# Altium schematic symbol library JLCPCB Ceramic Capacitor Schematic Lib.SchLib: 83 symbols
Pins are listed as number, name and electrical type; pins without a type are passive.

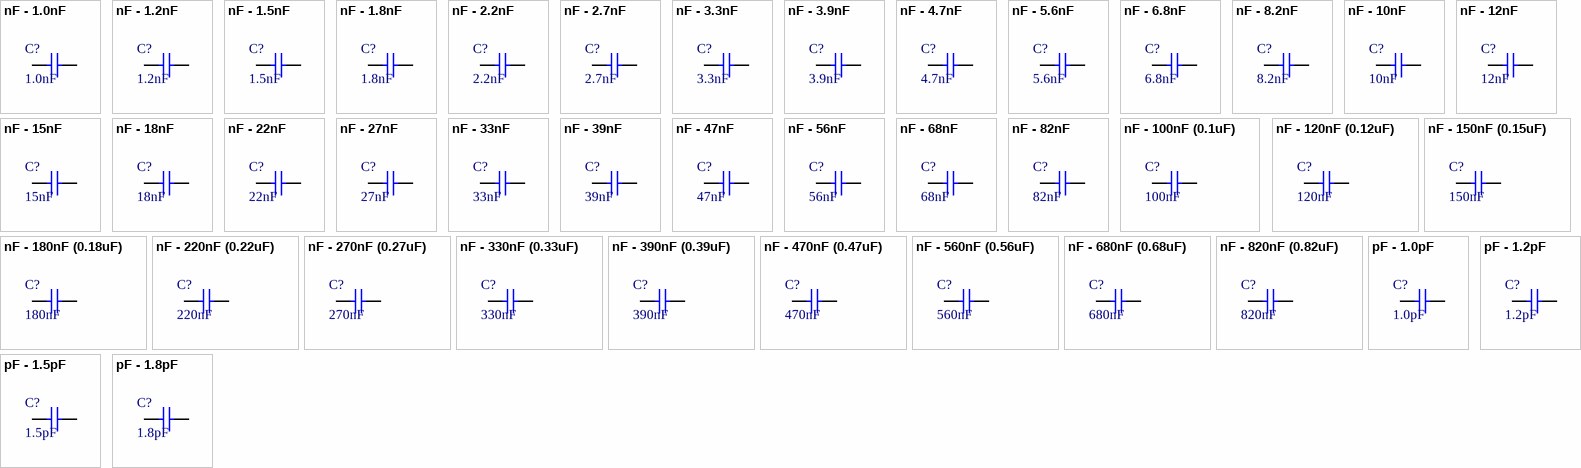
[diagram p0: symbols nF - 1.0nF to pF - 1.8pF]

## nF - 1.0nF
designator C?, comment 1.0nF
CAP Ceramic, 1.0nF, 50V, 0805; MPN: CL21B102KBCNNNC; Manufacturer: Samsung Electro-Mechanics; Capacitance: 1.0nF; Footprint: 0805; JLCPCB Part #: C46653; Voltage Rating: 50V; JLCPCB Basic Part: TRUE
footprint 0805 (Chip Resistor, 2-Leads, Body 2.00x1.25mm, IPC High Density)
pins: 1, 2

## nF - 1.2nF
designator C?, comment 1.2nF
CAP Ceramic, 1.2nF, 50V, 0805; MPN: CC0805JRNPO9BN122; Manufacturer: YAGEO; Capacitance: 1.2nF; Footprint: 0805; JLCPCB Part #: C113824; Voltage Rating: 50V; JLCPCB Basic Part: FALSE
footprint 0805 (Chip Resistor, 2-Leads, Body 2.00x1.25mm, IPC High Density)
pins: 1, 2

## nF - 1.5nF
designator C?, comment 1.5nF
CAP Ceramic, 1.5nF, 50V, 0805; MPN: 0805B152K500NT; Manufacturer: FH (Guangdong Fenghua Advanced Tech); Capacitance: 1.5nF; Footprint: 0805; JLCPCB Part #: C1717; Voltage Rating: 50V; JLCPCB Basic Part: TRUE
footprint 0805 (Chip Resistor, 2-Leads, Body 2.00x1.25mm, IPC High Density)
pins: 1, 2

## nF - 1.8nF
designator C?, comment 1.8nF
CAP Ceramic, 1.8nF, 50V, 0805; MPN: CC0805JRX7R9BB182; Manufacturer: YAGEO; Capacitance: 1.8nF; Footprint: 0805; JLCPCB Part #: C520021; Voltage Rating: 50V; JLCPCB Basic Part: FALSE
footprint 0805 (Chip Resistor, 2-Leads, Body 2.00x1.25mm, IPC High Density)
pins: 1, 2

## nF - 2.2nF
designator C?, comment 2.2nF
CAP Ceramic, 2.2nF, 50V, 0805; MPN: CL21C222JBFNNNE; Manufacturer: Samsung Electro-Mechanics; Capacitance: 2.2nF; Footprint: 0805; JLCPCB Part #: C28260; Voltage Rating: 50V; JLCPCB Basic Part: TRUE
footprint 0805 (Chip Resistor, 2-Leads, Body 2.00x1.25mm, IPC High Density)
pins: 1, 2

## nF - 2.7nF
designator C?, comment 2.7nF
CAP Ceramic, 2.7nF, 50V, 0805; MPN: CC0805JRX7R9BB272; Manufacturer: YAGEO; Capacitance: 2.7nF; Footprint: 0805; JLCPCB Part #: C520024; Voltage Rating: 50V; JLCPCB Basic Part: FALSE
footprint 0805 (Chip Resistor, 2-Leads, Body 2.00x1.25mm, IPC High Density)
pins: 1, 2

## nF - 3.3nF
designator C?, comment 3.3nF
CAP Ceramic, 3.3nF, 50V, 0805; MPN: 0805CG332J500NT; Manufacturer: FH (Guangdong Fenghua Advanced Tech); Capacitance: 3.3nF; Footprint: 0805; JLCPCB Part #: C486355; Voltage Rating: 50V; JLCPCB Basic Part: FALSE
footprint 0805 (Chip Resistor, 2-Leads, Body 2.00x1.25mm, IPC High Density)
pins: 1, 2

## nF - 3.9nF
designator C?, comment 3.9nF
CAP Ceramic, 3.9nF, 50V, 0805; MPN: CC0805JRX7R9BB392; Manufacturer: YAGEO; Capacitance: 3.9nF; Footprint: 0805; JLCPCB Part #: C520026; Voltage Rating: 50V; JLCPCB Basic Part: FALSE
footprint 0805 (Chip Resistor, 2-Leads, Body 2.00x1.25mm, IPC High Density)
pins: 1, 2

## nF - 4.7nF
designator C?, comment 4.7nF
CAP Ceramic, 4.7nF, 50V, 0805; MPN: 0805B472K500NT; Manufacturer: FH (Guangdong Fenghua Advanced Tech); Capacitance: 4.7nF; Footprint: 0805; JLCPCB Part #: C1744; Voltage Rating: 50V; JLCPCB Basic Part: TRUE
footprint 0805 (Chip Resistor, 2-Leads, Body 2.00x1.25mm, IPC High Density)
pins: 1, 2

## nF - 5.6nF
designator C?, comment 5.6nF
CAP Ceramic, 5.6nF, 50V, 0805; MPN: 0805B562K500NT; Manufacturer: FH (Guangdong Fenghua Advanced Tech); Capacitance: 5.6nF; Footprint: 0805; JLCPCB Part #: C1752; Voltage Rating: 50V; JLCPCB Basic Part: FALSE
footprint 0805 (Chip Resistor, 2-Leads, Body 2.00x1.25mm, IPC High Density)
pins: 1, 2

## nF - 6.8nF
designator C?, comment 6.8nF
CAP Ceramic, 6.8nF, 50V, 0805; MPN: 0805B682K500NT; Manufacturer: FH (Guangdong Fenghua Advanced Tech); Capacitance: 6.8nF; Footprint: 0805; JLCPCB Part #: C1755; Voltage Rating: 50V; JLCPCB Basic Part: TRUE
footprint 0805 (Chip Resistor, 2-Leads, Body 2.00x1.25mm, IPC High Density)
pins: 1, 2

## nF - 8.2nF
designator C?, comment 8.2nF
CAP Ceramic, 8.2nF, 50V, 0805; MPN: CC0805JRX7R9BB822; Manufacturer: YAGEO; Capacitance: 8.2nF; Footprint: 0805; JLCPCB Part #: C309490; Voltage Rating: 50V; JLCPCB Basic Part: FALSE
footprint 0805 (Chip Resistor, 2-Leads, Body 2.00x1.25mm, IPC High Density)
pins: 1, 2

## nF - 10nF
designator C?, comment 10nF
CAP Ceramic, 10nF, 50V, 0805; MPN: 0805B103J500NT; Manufacturer: FH (Guangdong Fenghua Advanced Tech); Capacitance: 10nF; Footprint: 0805; JLCPCB Part #: C24666; Voltage Rating: 50V; JLCPCB Basic Part: FALSE
footprint 0805 (Chip Resistor, 2-Leads, Body 2.00x1.25mm, IPC High Density)
pins: 1, 2

## nF - 12nF
designator C?, comment 12nF
CAP Ceramic, 12nF, 50V, 0805; MPN: 0805B123K500NT; Manufacturer: FH (Guangdong Fenghua Advanced Tech); Capacitance: 12nF; Footprint: 0805; JLCPCB Part #: C1715; Voltage Rating: 50V; JLCPCB Basic Part: FALSE
footprint 0805 (Chip Resistor, 2-Leads, Body 2.00x1.25mm, IPC High Density)
pins: 1, 2

## nF - 15nF
designator C?, comment 15nF
CAP Ceramic, 15nF, 50V, 0805; MPN: CC0805JRX7R9BB153; Manufacturer: YAGEO; Capacitance: 15nF; Footprint: 0805; JLCPCB Part #: C520016; Voltage Rating: 50V; JLCPCB Basic Part: FALSE
footprint 0805 (Chip Resistor, 2-Leads, Body 2.00x1.25mm, IPC High Density)
pins: 1, 2

## nF - 18nF
designator C?, comment 18nF
CAP Ceramic, 18nF, 50V, 0805; MPN: CC0805JRX7R9BB183; Manufacturer: YAGEO; Capacitance: 18nF; Footprint: 0805; JLCPCB Part #: C520032; Voltage Rating: 50V; JLCPCB Basic Part: FALSE
footprint 0805 (Chip Resistor, 2-Leads, Body 2.00x1.25mm, IPC High Density)
pins: 1, 2

## nF - 22nF
designator C?, comment 22nF
CAP Ceramic, 22nF, 50V, 0805; MPN: CL21B223KBANNNC; Manufacturer: Samsung Electro-Mechanics; Capacitance: 22nF; Footprint: 0805; JLCPCB Part #: C1729; Voltage Rating: 50V; JLCPCB Basic Part: TRUE
footprint 0805 (Chip Resistor, 2-Leads, Body 2.00x1.25mm, IPC High Density)
pins: 1, 2

## nF - 27nF
designator C?, comment 27nF
CAP Ceramic, 27nF, 50V, 0805; MPN: CC0805JRX7R9BB273; Manufacturer: YAGEO; Capacitance: 27nF; Footprint: 0805; JLCPCB Part #: C520042; Voltage Rating: 50V; JLCPCB Basic Part: FALSE
footprint 0805 (Chip Resistor, 2-Leads, Body 2.00x1.25mm, IPC High Density)
pins: 1, 2

## nF - 33nF
designator C?, comment 33nF
CAP Ceramic, 33nF, 50V, 0805; MPN: 0805B333K500NT; Manufacturer: FH (Guangdong Fenghua Advanced Tech); Capacitance: 33nF; Footprint: 0805; JLCPCB Part #: C1739; Voltage Rating: 50V; JLCPCB Basic Part: TRUE
footprint 0805 (Chip Resistor, 2-Leads, Body 2.00x1.25mm, IPC High Density)
pins: 1, 2

## nF - 39nF
designator C?, comment 39nF
CAP Ceramic, 39nF, 50V, 0805; MPN: CC0805KRX7R9BB393; Manufacturer: YAGEO; Capacitance: 39nF; Footprint: 0805; JLCPCB Part #: C309493; Voltage Rating: 50V; JLCPCB Basic Part: FALSE
footprint 0805 (Chip Resistor, 2-Leads, Body 2.00x1.25mm, IPC High Density)
pins: 1, 2

## nF - 47nF
designator C?, comment 47nF
CAP Ceramic, 47nF, 50V, 0805; MPN: CL21B473KBCNNNC; Manufacturer: Samsung Electro-Mechanics; Capacitance: 47nF; Footprint: 0805; JLCPCB Part #: C53134; Voltage Rating: 50V; JLCPCB Basic Part: TRUE
footprint 0805 (Chip Resistor, 2-Leads, Body 2.00x1.25mm, IPC High Density)
pins: 1, 2

## nF - 56nF
designator C?, comment 56nF
CAP Ceramic, 56nF, 50V, 0805; MPN: CC0805JRX7R9BB563; Manufacturer: YAGEO; Capacitance: 56nF; Footprint: 0805; JLCPCB Part #: C520045; Voltage Rating: 50V; JLCPCB Basic Part: FALSE
footprint 0805 (Chip Resistor, 2-Leads, Body 2.00x1.25mm, IPC High Density)
pins: 1, 2

## nF - 68nF
designator C?, comment 68nF
CAP Ceramic, 68nF, 50V, 0805; MPN: 0805B683K500NT; Manufacturer: FH (Guangdong Fenghua Advanced Tech); Capacitance: 68nF; Footprint: 0805; JLCPCB Part #: C1756; Voltage Rating: 50V; JLCPCB Basic Part: FALSE
footprint 0805 (Chip Resistor, 2-Leads, Body 2.00x1.25mm, IPC High Density)
pins: 1, 2

## nF - 82nF
designator C?, comment 82nF
CAP Ceramic, 82nF, 50V, 0805; MPN: CC0805JRX7R9BB823; Manufacturer: YAGEO; Capacitance: 82nF; Footprint: 0805; JLCPCB Part #: C520047; Voltage Rating: 50V; JLCPCB Basic Part: FALSE
footprint 0805 (Chip Resistor, 2-Leads, Body 2.00x1.25mm, IPC High Density)
pins: 1, 2

## nF - 100nF (0.1uF)
designator C?, comment 100nF
CAP Ceramic, 100nF, 50V, 0805; MPN: CC0805KRX7R9BB104; Manufacturer: YAGEO; Capacitance: 100nF; Footprint: 0805; JLCPCB Part #: C49678; Voltage Rating: 50V; JLCPCB Basic Part: TRUE
footprint 0805 (Chip Resistor, 2-Leads, Body 2.00x1.25mm, IPC High Density)
pins: 1, 2

## nF - 120nF (0.12uF)
designator C?, comment 120nF
CAP Ceramic, 120nF, 50V, 0805; MPN: TCC0805X7R124K500DT; Manufacturer: CCTC; Capacitance: 120nF; Footprint: 0805; JLCPCB Part #: C376931; Voltage Rating: 50V; JLCPCB Basic Part: FALSE
footprint 0805 (Chip Resistor, 2-Leads, Body 2.00x1.25mm, IPC High Density)
pins: 1, 2

## nF - 150nF (0.15uF)
designator C?, comment 150nF
CAP Ceramic, 150nF, 50V, 0805; MPN: 0805B154K500NT; Manufacturer: FH (Guangdong Fenghua Advanced Tech); Capacitance: 150nF; Footprint: 0805; JLCPCB Part #: C1719; Voltage Rating: 50V; JLCPCB Basic Part: FALSE
footprint 0805 (Chip Resistor, 2-Leads, Body 2.00x1.25mm, IPC High Density)
pins: 1, 2

## nF - 180nF (0.18uF)
designator C?, comment 180nF
CAP Ceramic, 180nF, 50V, 0805; MPN: TCC0805X7R184K500DT; Manufacturer: CCTC; Capacitance: 180nF; Footprint: 0805; JLCPCB Part #: C376938; Voltage Rating: 50V; JLCPCB Basic Part: FALSE
footprint 0805 (Chip Resistor, 2-Leads, Body 2.00x1.25mm, IPC High Density)
pins: 1, 2

## nF - 220nF (0.22uF)
designator C?, comment 220nF
CAP Ceramic, 220nF, 50V, 0805; MPN: CL21B224KBFNNNE; Manufacturer: Samsung Electro-Mechanics; Capacitance: 220nF; Footprint: 0805; JLCPCB Part #: C5378; Voltage Rating: 50V; JLCPCB Basic Part: TRUE
footprint 0805 (Chip Resistor, 2-Leads, Body 2.00x1.25mm, IPC High Density)
pins: 1, 2

## nF - 270nF (0.27uF)
designator C?, comment 270nF
CAP Ceramic, 270nF, 50V, 0805; MPN: TCC0805X7R274K500DT; Manufacturer: CCTC; Capacitance: 270nF; Footprint: 0805; JLCPCB Part #: C376968; Voltage Rating: 50V; JLCPCB Basic Part: FALSE
footprint 0805 (Chip Resistor, 2-Leads, Body 2.00x1.25mm, IPC High Density)
pins: 1, 2

## nF - 330nF (0.33uF)
designator C?, comment 330nF
CAP Ceramic, 330nF, 50V, 0805; MPN: 0805B334K500NT; Manufacturer: FH (Guangdong Fenghua Advanced Tech); Capacitance: 330nF; Footprint: 0805; JLCPCB Part #: C1740; Voltage Rating: 50V; JLCPCB Basic Part: TRUE
footprint 0805 (Chip Resistor, 2-Leads, Body 2.00x1.25mm, IPC High Density)
pins: 1, 2

## nF - 390nF (0.39uF)
designator C?, comment 390nF
CAP Ceramic, 390nF, 50V, 0805; MPN: 0805B394K500CT; Manufacturer: Walsin Tech Corp; Capacitance: 390nF; Footprint: 0805; JLCPCB Part #: C384757; Voltage Rating: 50V; JLCPCB Basic Part: FALSE
footprint 0805 (Chip Resistor, 2-Leads, Body 2.00x1.25mm, IPC High Density)
pins: 1, 2

## nF - 470nF (0.47uF)
designator C?, comment 470nF
CAP Ceramic, 470nF, 50V, 0805; MPN: CL21B474KBFNNNE; Manufacturer: Samsung Electro-Mechanics; Capacitance: 470nF; Footprint: 0805; JLCPCB Part #: C13967; Voltage Rating: 50V; JLCPCB Basic Part: TRUE
footprint 0805 (Chip Resistor, 2-Leads, Body 2.00x1.25mm, IPC High Density)
pins: 1, 2

## nF - 560nF (0.56uF)
designator C?, comment 560nF
CAP Ceramic, 560nF, 50V, 0805; MPN: TCC0805X7R564K500DT; Manufacturer: CCTC; Capacitance: 560nF; Footprint: 0805; JLCPCB Part #: C377000; Voltage Rating: 50V; JLCPCB Basic Part: FALSE
footprint 0805 (Chip Resistor, 2-Leads, Body 2.00x1.25mm, IPC High Density)
pins: 1, 2

## nF - 680nF (0.68uF)
designator C?, comment 680nF
CAP Ceramic, 680nF, 50V, 0805; MPN: CC0805KKX7R9BB684; Manufacturer: YAGEO; Capacitance: 680nF; Footprint: 0805; JLCPCB Part #: C107133; Voltage Rating: 50V; JLCPCB Basic Part: FALSE
footprint 0805 (Chip Resistor, 2-Leads, Body 2.00x1.25mm, IPC High Density)
pins: 1, 2

## nF - 820nF (0.82uF)
designator C?, comment 820nF
CAP Ceramic, 820nF, 50V, 0805; MPN: 0805F824M500NT; Manufacturer: FH (Guangdong Fenghua Advanced Tech); Capacitance: 820nF; Footprint: 0805; JLCPCB Part #: C67958; Voltage Rating: 50V; JLCPCB Basic Part: FALSE
footprint 0805 (Chip Resistor, 2-Leads, Body 2.00x1.25mm, IPC High Density)
pins: 1, 2

## pF - 1.0pF
designator C?, comment 1.0pF
CAP Ceramic, 1.0pF, 50V, 0805; MPN: CC0805CRNPO9BN1R0; Manufacturer: YAGEO; Capacitance: 1.0pF; Footprint: 0805; JLCPCB Part #: C513668; Voltage Rating: 50V; JLCPCB Basic Part: FALSE
footprint 0805 (Chip Resistor, 2-Leads, Body 2.00x1.25mm, IPC High Density)
pins: 1, 2

## pF - 1.2pF
designator C?, comment 1.2pF
CAP Ceramic, 1.2pF, 50V, 0805; MPN: CC0805CRNPO9BN1R2; Manufacturer: YAGEO; Capacitance: 1.2pF; Footprint: 0805; JLCPCB Part #: C327236; Voltage Rating: 50V; JLCPCB Basic Part: FALSE
footprint 0805 (Chip Resistor, 2-Leads, Body 2.00x1.25mm, IPC High Density)
pins: 1, 2

## pF - 1.5pF
designator C?, comment 1.5pF
CAP Ceramic, 1.5pF, 50V, 0805; MPN: CC0805CRNPO9BN1R5; Manufacturer: YAGEO; Capacitance: 1.5pF; Footprint: 0805; JLCPCB Part #: C519931; Voltage Rating: 50V; JLCPCB Basic Part: FALSE
footprint 0805 (Chip Resistor, 2-Leads, Body 2.00x1.25mm, IPC High Density)
pins: 1, 2

## pF - 1.8pF
designator C?, comment 1.8pF
CAP Ceramic, 1.8pF, 50V, 0805; MPN: CC0805CRNPO9BN1R8; Manufacturer: YAGEO; Capacitance: 1.8pF; Footprint: 0805; JLCPCB Part #: C327235; Voltage Rating: 50V; JLCPCB Basic Part: FALSE
footprint 0805 (Chip Resistor, 2-Leads, Body 2.00x1.25mm, IPC High Density)
pins: 1, 2

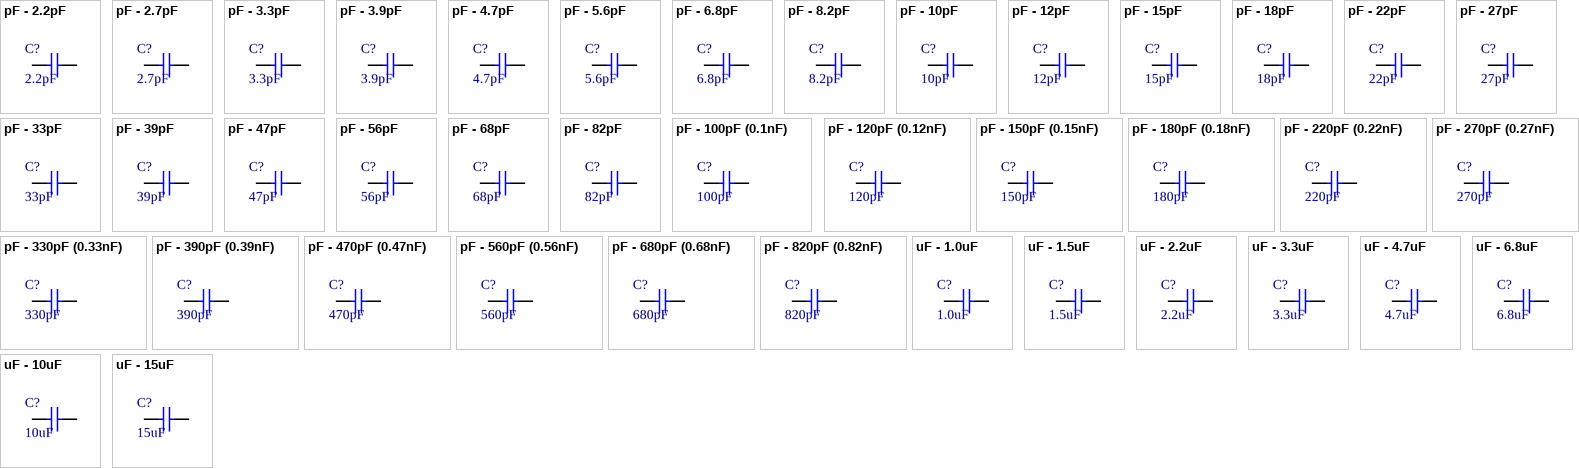
[diagram p1: symbols pF - 2.2pF to uF - 15uF]

## pF - 2.2pF
designator C?, comment 2.2pF
CAP Ceramic, 2.2pF, 50V, 0805; MPN: TCC0805COG2R2C500BT; Manufacturer: CCTC; Capacitance: 2.2pF; Footprint: 0805; JLCPCB Part #: C376879; Voltage Rating: 50V; JLCPCB Basic Part: FALSE
footprint 0805 (Chip Resistor, 2-Leads, Body 2.00x1.25mm, IPC High Density)
pins: 1, 2

## pF - 2.7pF
designator C?, comment 2.7pF
CAP Ceramic, 2.7pF, 50V, 0805; MPN: CC0805BRNPO9BN2R7; Manufacturer: YAGEO; Capacitance: 2.7pF; Footprint: 0805; JLCPCB Part #: C519988; Voltage Rating: 50V; JLCPCB Basic Part: FALSE
footprint 0805 (Chip Resistor, 2-Leads, Body 2.00x1.25mm, IPC High Density)
pins: 1, 2

## pF - 3.3pF
designator C?, comment 3.3pF
CAP Ceramic, 3.3pF, 50V, 0805; MPN: CC0805CRNPO9BN3R3; Manufacturer: YAGEO; Capacitance: 3.3pF; Footprint: 0805; JLCPCB Part #: C327234; Voltage Rating: 50V; JLCPCB Basic Part: FALSE
footprint 0805 (Chip Resistor, 2-Leads, Body 2.00x1.25mm, IPC High Density)
pins: 1, 2

## pF - 3.9pF
designator C?, comment 3.9pF
CAP Ceramic, 3.9pF, 50V, 0805; MPN: CC0805CRNPO9BN3R9; Manufacturer: YAGEO; Capacitance: 3.9pF; Footprint: 0805; JLCPCB Part #: C519938; Voltage Rating: 50V; JLCPCB Basic Part: FALSE
footprint 0805 (Chip Resistor, 2-Leads, Body 2.00x1.25mm, IPC High Density)
pins: 1, 2

## pF - 4.7pF
designator C?, comment 4.7pF
CAP Ceramic, 4.7pF, 50V, 0805; MPN: CC0805CRNPO9BN4R7; Manufacturer: YAGEO; Capacitance: 4.7pF; Footprint: 0805; JLCPCB Part #: C327159; Voltage Rating: 50V; JLCPCB Basic Part: FALSE
footprint 0805 (Chip Resistor, 2-Leads, Body 2.00x1.25mm, IPC High Density)
pins: 1, 2

## pF - 5.6pF
designator C?, comment 5.6pF
CAP Ceramic, 5.6pF, 50V, 0805; MPN: CC0805CRNPO9BN5R6; Manufacturer: YAGEO; Capacitance: 5.6pF; Footprint: 0805; JLCPCB Part #: C513555; Voltage Rating: 50V; JLCPCB Basic Part: FALSE
footprint 0805 (Chip Resistor, 2-Leads, Body 2.00x1.25mm, IPC High Density)
pins: 1, 2

## pF - 6.8pF
designator C?, comment 6.8pF
CAP Ceramic, 6.8pF, 50V, 0805; MPN: CC0805CRNPO9BN6R8; Manufacturer: YAGEO; Capacitance: 6.8pF; Footprint: 0805; JLCPCB Part #: C519942; Voltage Rating: 50V; JLCPCB Basic Part: FALSE
footprint 0805 (Chip Resistor, 2-Leads, Body 2.00x1.25mm, IPC High Density)
pins: 1, 2

## pF - 8.2pF
designator C?, comment 8.2pF
CAP Ceramic, 8.2pF, 50V, 0805; MPN: CC0805DRNPO9BN8R2; Manufacturer: YAGEO; Capacitance: 8.2pF; Footprint: 0805; JLCPCB Part #: C327233; Voltage Rating: 50V; JLCPCB Basic Part: FALSE
footprint 0805 (Chip Resistor, 2-Leads, Body 2.00x1.25mm, IPC High Density)
pins: 1, 2

## pF - 10pF
designator C?, comment 10pF
CAP Ceramic, 10pF, 50V, 0805; MPN: CC0805JRNPO9BN100; Manufacturer: YAGEO; Capacitance: 10pF; Footprint: 0805; JLCPCB Part #: C107107; Voltage Rating: 50V; JLCPCB Basic Part: FALSE
footprint 0805 (Chip Resistor, 2-Leads, Body 2.00x1.25mm, IPC High Density)
pins: 1, 2

## pF - 12pF
designator C?, comment 12pF
CAP Ceramic, 12pF, 50V, 0805; MPN: 0805CG120J500NT; Manufacturer: FH (Guangdong Fenghua Advanced Tech); Capacitance: 12pF; Footprint: 0805; JLCPCB Part #: C1792; Voltage Rating: 50V; JLCPCB Basic Part: TRUE
footprint 0805 (Chip Resistor, 2-Leads, Body 2.00x1.25mm, IPC High Density)
pins: 1, 2

## pF - 15pF
designator C?, comment 15pF
CAP Ceramic, 15pF, 50V, 0805; MPN: CC0805JRNPO9BN150; Manufacturer: YAGEO; Capacitance: 15pF; Footprint: 0805; JLCPCB Part #: C107110; Voltage Rating: 50V; JLCPCB Basic Part: TRUE
footprint 0805 (Chip Resistor, 2-Leads, Body 2.00x1.25mm, IPC High Density)
pins: 1, 2

## pF - 18pF
designator C?, comment 18pF
CAP Ceramic, 18pF, 50V, 0805; MPN: 0805CG180J500NT; Manufacturer: FH (Guangdong Fenghua Advanced Tech); Capacitance: 18pF; Footprint: 0805; JLCPCB Part #: C1797; Voltage Rating: 50V; JLCPCB Basic Part: TRUE
footprint 0805 (Chip Resistor, 2-Leads, Body 2.00x1.25mm, IPC High Density)
pins: 1, 2

## pF - 22pF
designator C?, comment 22pF
CAP Ceramic, 22pF, 50V, 0805; MPN: CL21C220JBANNNC; Manufacturer: Samsung Electro-Mechanics; Capacitance: 22pF; Footprint: 0805; JLCPCB Part #: C1804; Voltage Rating: 50V; JLCPCB Basic Part: TRUE
footprint 0805 (Chip Resistor, 2-Leads, Body 2.00x1.25mm, IPC High Density)
pins: 1, 2

## pF - 27pF
designator C?, comment 27pF
CAP Ceramic, 27pF, 50V, 0805; MPN: CC0805GRNPO9BN270; Manufacturer: YAGEO; Capacitance: 27pF; Footprint: 0805; JLCPCB Part #: C520059; Voltage Rating: 50V; JLCPCB Basic Part: FALSE
footprint 0805 (Chip Resistor, 2-Leads, Body 2.00x1.25mm, IPC High Density)
pins: 1, 2

## pF - 33pF
designator C?, comment 33pF
CAP Ceramic, 33pF, 50V, 0805; MPN: CC0805JRNPO9BN330; Manufacturer: YAGEO; Capacitance: 33pF; Footprint: 0805; JLCPCB Part #: C107115; Voltage Rating: 50V; JLCPCB Basic Part: TRUE
footprint 0805 (Chip Resistor, 2-Leads, Body 2.00x1.25mm, IPC High Density)
pins: 1, 2

## pF - 39pF
designator C?, comment 39pF
CAP Ceramic, 39pF, 50V, 0805; MPN: CC0805GRNPO9BN390; Manufacturer: YAGEO; Capacitance: 39pF; Footprint: 0805; JLCPCB Part #: C520061; Voltage Rating: 50V; JLCPCB Basic Part: FALSE
footprint 0805 (Chip Resistor, 2-Leads, Body 2.00x1.25mm, IPC High Density)
pins: 1, 2

## pF - 47pF
designator C?, comment 47pF
CAP Ceramic, 47pF, 50V, 0805; MPN: CL21C470JBANNNC; Manufacturer: Samsung Electro-Mechanics; Capacitance: 47pF; Footprint: 0805; JLCPCB Part #: C14857; Voltage Rating: 50V; JLCPCB Basic Part: FALSE
footprint 0805 (Chip Resistor, 2-Leads, Body 2.00x1.25mm, IPC High Density)
pins: 1, 2

## pF - 56pF
designator C?, comment 56pF
CAP Ceramic, 56pF, 50V, 0805; MPN: CC0805FRNPO9BN560; Manufacturer: YAGEO; Capacitance: 56pF; Footprint: 0805; JLCPCB Part #: C527187; Voltage Rating: 50V; JLCPCB Basic Part: FALSE
footprint 0805 (Chip Resistor, 2-Leads, Body 2.00x1.25mm, IPC High Density)
pins: 1, 2

## pF - 68pF
designator C?, comment 68pF
CAP Ceramic, 68pF, 50V, 0805; MPN: CC0805JRNPO9BN680; Manufacturer: YAGEO; Capacitance: 68pF; Footprint: 0805; JLCPCB Part #: C107120; Voltage Rating: 50V; JLCPCB Basic Part: FALSE
footprint 0805 (Chip Resistor, 2-Leads, Body 2.00x1.25mm, IPC High Density)
pins: 1, 2

## pF - 82pF
designator C?, comment 82pF
CAP Ceramic, 82pF, 50V, 0805; MPN: 0805CG820J500NT; Manufacturer: FH (Guangdong Fenghua Advanced Tech); Capacitance: 82pF; Footprint: 0805; JLCPCB Part #: C1841; Voltage Rating: 50V; JLCPCB Basic Part: FALSE
footprint 0805 (Chip Resistor, 2-Leads, Body 2.00x1.25mm, IPC High Density)
pins: 1, 2

## pF - 100pF (0.1nF)
designator C?, comment 100pF
CAP Ceramic, 100pF, 50V, 0805; MPN: CL21C101JBANNNC; Manufacturer: Samsung Electro-Mechanics; Capacitance: 100pF; Footprint: 0805; JLCPCB Part #: C1790; Voltage Rating: 50V; JLCPCB Basic Part: FALSE
footprint 0805 (Chip Resistor, 2-Leads, Body 2.00x1.25mm, IPC High Density)
pins: 1, 2

## pF - 120pF (0.12nF)
designator C?, comment 120pF
CAP Ceramic, 120pF, 50V, 0805; MPN: CC0805JRNPO9BN121; Manufacturer: YAGEO; Capacitance: 120pF; Footprint: 0805; JLCPCB Part #: C107109; Voltage Rating: 50V; JLCPCB Basic Part: FALSE
footprint 0805 (Chip Resistor, 2-Leads, Body 2.00x1.25mm, IPC High Density)
pins: 1, 2

## pF - 150pF (0.15nF)
designator C?, comment 150pF
CAP Ceramic, 150pF, 50V, 0805; MPN: 0805B151K500NT; Manufacturer: FH (Guangdong Fenghua Advanced Tech); Capacitance: 150pF; Footprint: 0805; JLCPCB Part #: C1716; Voltage Rating: 50V; JLCPCB Basic Part: FALSE
footprint 0805 (Chip Resistor, 2-Leads, Body 2.00x1.25mm, IPC High Density)
pins: 1, 2

## pF - 180pF (0.18nF)
designator C?, comment 180pF
CAP Ceramic, 180pF, 50V, 0805; MPN: CC0805FRNPO9BN181; Manufacturer: YAGEO; Capacitance: 180pF; Footprint: 0805; JLCPCB Part #: C527080; Voltage Rating: 50V; JLCPCB Basic Part: FALSE
footprint 0805 (Chip Resistor, 2-Leads, Body 2.00x1.25mm, IPC High Density)
pins: 1, 2

## pF - 220pF (0.22nF)
designator C?, comment 220pF
CAP Ceramic, 220pF, 50V, 0805; MPN: CC0805KRX7R9BB221; Manufacturer: YAGEO; Capacitance: 220pF; Footprint: 0805; JLCPCB Part #: C107145; Voltage Rating: 50V; JLCPCB Basic Part: FALSE
footprint 0805 (Chip Resistor, 2-Leads, Body 2.00x1.25mm, IPC High Density)
pins: 1, 2

## pF - 270pF (0.27nF)
designator C?, comment 270pF
CAP Ceramic, 270pF, 50V, 0805; MPN: CC0805FRNPO9BN271; Manufacturer: YAGEO; Capacitance: 270pF; Footprint: 0805; JLCPCB Part #: C527183; Voltage Rating: 50V; JLCPCB Basic Part: FALSE
footprint 0805 (Chip Resistor, 2-Leads, Body 2.00x1.25mm, IPC High Density)
pins: 1, 2

## pF - 330pF (0.33nF)
designator C?, comment 330pF
CAP Ceramic, 330pF, 50V, 0805; MPN: CC0805KRX7R9BB331; Manufacturer: YAGEO; Capacitance: 330pF; Footprint: 0805; JLCPCB Part #: C107148; Voltage Rating: 50V; JLCPCB Basic Part: FALSE
footprint 0805 (Chip Resistor, 2-Leads, Body 2.00x1.25mm, IPC High Density)
pins: 1, 2

## pF - 390pF (0.39nF)
designator C?, comment 390pF
CAP Ceramic, 390pF, 50V, 0805; MPN: CC0805JRNPO9BN391; Manufacturer: YAGEO; Capacitance: 390pF; Footprint: 0805; JLCPCB Part #: C519975; Voltage Rating: 50V; JLCPCB Basic Part: FALSE
footprint 0805 (Chip Resistor, 2-Leads, Body 2.00x1.25mm, IPC High Density)
pins: 1, 2

## pF - 470pF (0.47nF)
designator C?, comment 470pF
CAP Ceramic, 470pF, 50V, 0805; MPN: 0805B471K500NT; Manufacturer: FH (Guangdong Fenghua Advanced Tech); Capacitance: 470pF; Footprint: 0805; JLCPCB Part #: C1743; Voltage Rating: 50V; JLCPCB Basic Part: TRUE
footprint 0805 (Chip Resistor, 2-Leads, Body 2.00x1.25mm, IPC High Density)
pins: 1, 2

## pF - 560pF (0.56nF)
designator C?, comment 560pF
CAP Ceramic, 560pF, 50V, 0805; MPN: CC0805GRNPO9BN561; Manufacturer: YAGEO; Capacitance: 560pF; Footprint: 0805; JLCPCB Part #: C520091; Voltage Rating: 50V; JLCPCB Basic Part: FALSE
footprint 0805 (Chip Resistor, 2-Leads, Body 2.00x1.25mm, IPC High Density)
pins: 1, 2

## pF - 680pF (0.68nF)
designator C?, comment 680pF
CAP Ceramic, 680pF, 50V, 0805; MPN: CC0805JRNPO9BN681; Manufacturer: YAGEO; Capacitance: 680pF; Footprint: 0805; JLCPCB Part #: C107121; Voltage Rating: 50V; JLCPCB Basic Part: FALSE
footprint 0805 (Chip Resistor, 2-Leads, Body 2.00x1.25mm, IPC High Density)
pins: 1, 2

## pF - 820pF (0.82nF)
designator C?, comment 820pF
CAP Ceramic, 820pF, 50V, 0805; MPN: CC0805GRNPO9BN821; Manufacturer: YAGEO; Capacitance: 820pF; Footprint: 0805; JLCPCB Part #: C309484; Voltage Rating: 50V; JLCPCB Basic Part: FALSE
footprint 0805 (Chip Resistor, 2-Leads, Body 2.00x1.25mm, IPC High Density)
pins: 1, 2

## uF - 1.0uF
designator C?, comment 1.0uF
CAP Ceramic, 1.0uF, 50V, 0805; MPN: CL21B105KBFNNNE; Manufacturer: Samsung Electro-Mechanics; Capacitance: 1.0uF; Footprint: 0805; JLCPCB Part #: C28323; Voltage Rating: 50V; JLCPCB Basic Part: TRUE
footprint 0805 (Chip Resistor, 2-Leads, Body 2.00x1.25mm, IPC High Density)
pins: 1, 2

## uF - 1.5uF
designator C?, comment 1.5uF
CAP Ceramic, 1.5uF, 25V, 0805; MPN: 0805B155K250CT; Manufacturer: Walsin Tech Corp; Capacitance: 1.5uF; Footprint: 0805; JLCPCB Part #: C384767; Voltage Rating: 25V; JLCPCB Basic Part: FALSE
footprint 0805 (Chip Resistor, 2-Leads, Body 2.00x1.25mm, IPC High Density)
pins: 1, 2

## uF - 2.2uF
designator C?, comment 2.2uF
CAP Ceramic, 2.2uF, 50V, 0805; MPN: 0805F225M500NT; Manufacturer: FH (Guangdong Fenghua Advanced Tech); Capacitance: 2.2uF; Footprint: 0805; JLCPCB Part #: C49217; Voltage Rating: 50V; JLCPCB Basic Part: FALSE
footprint 0805 (Chip Resistor, 2-Leads, Body 2.00x1.25mm, IPC High Density)
pins: 1, 2

## uF - 3.3uF
designator C?, comment 3.3uF
CAP Ceramic, 3.3uF, 50V, 0805; MPN: C2012X6S1H335KT000E; Manufacturer: TDK; Capacitance: 3.3uF; Footprint: 0805; JLCPCB Part #: C338093; Voltage Rating: 50V; JLCPCB Basic Part: FALSE
footprint 0805 (Chip Resistor, 2-Leads, Body 2.00x1.25mm, IPC High Density)
pins: 1, 2

## uF - 4.7uF
designator C?, comment 4.7uF
CAP Ceramic, 4.7uF, 50V, 0805; MPN: GRM21BR61H475KE51L; Manufacturer: Murata Electronics; Capacitance: 4.7uF; Footprint: 0805; JLCPCB Part #: C162420; Voltage Rating: 50V; JLCPCB Basic Part: FALSE
footprint 0805 (Chip Resistor, 2-Leads, Body 2.00x1.25mm, IPC High Density)
pins: 1, 2

## uF - 6.8uF
designator C?, comment 6.8uF
CAP Ceramic, 6.8uF, 25V, 0805; MPN: C2012X5R1E685MT000N; Manufacturer: TDK; Capacitance: 6.8uF; Footprint: 0805; JLCPCB Part #: C338083; Voltage Rating: 25V; JLCPCB Basic Part: FALSE
footprint 0805 (Chip Resistor, 2-Leads, Body 2.00x1.25mm, IPC High Density)
pins: 1, 2

## uF - 10uF
designator C?, comment 10uF
CAP Ceramic, 10uF, 50V, 0805; MPN: GRM21BR61H106KE43L; Manufacturer: Murata Electronics; Capacitance: 10uF; Footprint: 0805; JLCPCB Part #: C440198; Voltage Rating: 50V; JLCPCB Basic Part: TRUE
footprint 0805 (Chip Resistor, 2-Leads, Body 2.00x1.25mm, IPC High Density)
pins: 1, 2

## uF - 15uF
designator C?, comment 15uF
CAP Ceramic, 15uF, 100V, 2220; MPN: CGA9P3X7S2A156MT0Y0N; Manufacturer: TDK; Capacitance: 15uF; Footprint: 2220; JLCPCB Part #: C361175; Voltage Rating: 100V; JLCPCB Basic Part: FALSE
footprint 2220
pins: 1, 2

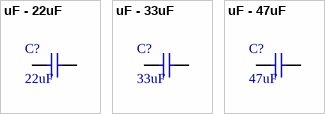
[diagram p2: symbols uF - 22uF to uF - 47uF]

## uF - 22uF
designator C?, comment 22uF
CAP Ceramic, 22uF, 35V, 0805; MPN: C2012X5R1V226MT000E; Manufacturer: TDK; Capacitance: 22uF; Footprint: 0805; JLCPCB Part #: C338080; Voltage Rating: 35V; JLCPCB Basic Part: FALSE
footprint 0805 (Chip Resistor, 2-Leads, Body 2.00x1.25mm, IPC High Density)
pins: 1, 2

## uF - 33uF
designator C?, comment 33uF
CAP Ceramic, 33uF, 50V, 2220; MPN: KRM55WR71H336MH01K; Manufacturer: Murata Electronics; Capacitance: 33uF; Footprint: 2220; JLCPCB Part #: C524627; Voltage Rating: 50V; JLCPCB Basic Part: FALSE
footprint 2220
pins: 1, 2

## uF - 47uF
designator C?, comment 47uF
CAP Ceramic, 47uF, 25V, 1206; MPN: GRM31CR61E476ME44L; Manufacturer: Murata Electronics; Capacitance: 47uF; Footprint: 1206; JLCPCB Part #: C403725; Voltage Rating: 25V; JLCPCB Basic Part: FALSE
footprint 1206 (SMD, 2-Leads, Body 3.4x1.8mm, IPC Medium Density)
pins: 1, 2